# Altium footprint library ZJUNlict_footprint.PcbLib: 113 footprints (part 7 of 8)
Each footprint in its own frame and in the unit in brackets; x right, y up, seen from the top. Pads: shape width x height; smd on the part's side, far side on the other; paste and mask are expansions set on the pad; w line width, h text height; cw(c..) or ccw(c..) is an arc to the next point about the centre after c.
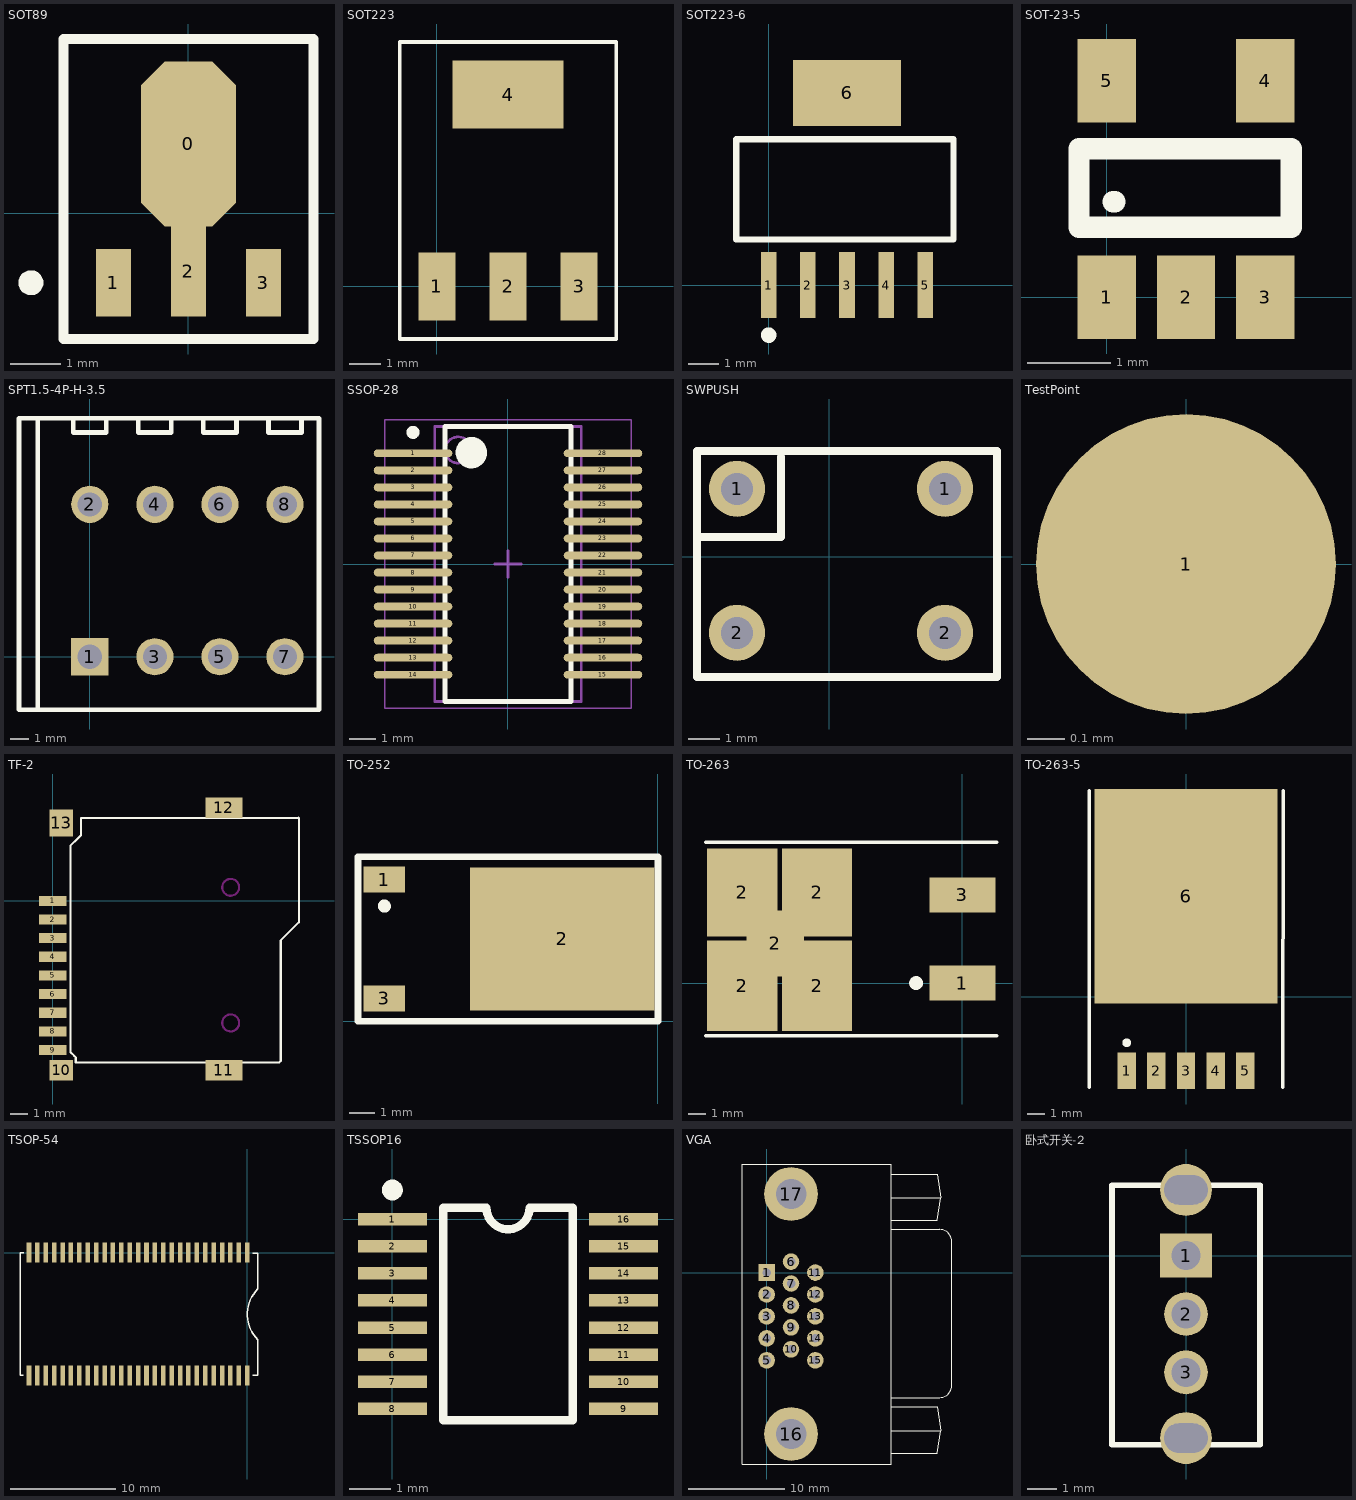
[diagram p6: the footprints below, top view; thin cyan lines are the x and y axes]

## SOT89 [mm] "SOT-89; Body 4.6 x 4.25 mm, inc. leads (LxW max)"
height 1.6
pads (4):
  oct 1.9x3.3 smd: 0(0,1.388)
  rect 0.7x1.35 smd: 1(-1.5,-1.388) 3(1.5,-1.388)
  rect 0.7x1.8 smd: 2(0,-1.163)
Top Overlay:
  circle w0.25: c-3.15,-1.388 r0.125
  lines w0.2: -2.5,-2.513 2.5,-2.513 2.5,3.487 -2.5,3.487 -2.5,-2.513

## SOT223 [mm]
height 1.4
pads (4):
  rect 1.2x2.2 smd: 1(0,0) 2(2.3,0) 3(4.6,0)
  rect 3.6x2.2 smd: 4(2.3,6.2)
Top Overlay:
  lines w0.127: -1.2,-1.7 5.8,-1.7 5.8,7.9 -1.2,7.9 -1.2,-1.7

## SOT223-6 [mm]
pads (6):
  rect 0.51x2.15 smd: 1(0,0) 2(1.27,0) 3(2.54,0) 4(3.81,0) 5(5.08,0)
  rect 3.5x2.15 smd: 6(2.54,6.223)
Top Overlay:
  circle w0.25: c0,-1.625 r0.125
  lines w0.2: -1.05,1.475 5.994,1.475 5.994,4.725 -1.05,4.725 -1.05,1.475

## SOT-23-5 [mm]
pads (5):
  rect 0.7x1 smd: 1(0,0) 2(0.95,0) 3(1.9,0) 4(1.9,2.59) 5(0,2.59)
Top Overlay:
  lines w0.254: 0.076,1.143 0.102,1.143 ; -0.33,0.838 -0.33,1.778 2.21,1.778 2.21,0.838 -0.33,0.838

## SPT1.5-4P-H-3.5 [mm]
pads (8):
  rect 2x2 hole 1.3: 1(0,0)
  round 2 hole 1.3: 2(0,8.2) 3(3.5,0) 4(3.5,8.2) 5(7,0) 6(7,8.2) 7(10.5,0) 8(10.5,8.2)
Top Overlay:
  lines w0.254: -2.794,-2.849 -2.794,12.827 ; -0.889,12.827 -0.889,12.065 0.889,12.065 0.889,12.827 ; 2.611,12.827 2.611,12.065 4.389,12.065 4.389,12.827 ; 6.111,12.827 6.111,12.065 7.889,12.065 7.889,12.827 ; 9.611,12.827 9.611,12.065 11.389,12.065 11.389,12.827 ; -3.81,-2.849 -3.81,12.827 12.334,12.827 12.334,-2.849 -3.81,-2.849

## SSOP-28 [mm] "SOP, 28-Leads, Body 10.20x5.45mm, Pitch 0.65mm, IPC Medium Density"
height 2
pads (28):
  oval 3x0.3 smd: 1(-3.625,4.225) 2(-3.625,3.575) 3(-3.625,2.925) 4(-3.625,2.275) 5(-3.625,1.625) 6(-3.625,0.975) 7(-3.625,0.325) 8(-3.625,-0.325) 9(-3.625,-0.975) 10(-3.625,-1.625) 11(-3.625,-2.275) 12(-3.625,-2.925) 13(-3.625,-3.575) 14(-3.625,-4.225) 15(3.625,-4.225) 16(3.625,-3.575) 17(3.625,-2.925) 18(3.625,-2.275) 19(3.625,-1.625) 20(3.625,-0.975) 21(3.625,-0.325) 22(3.625,0.325) 23(3.625,0.975) 24(3.625,1.625) 25(3.625,2.275) 26(3.625,2.925) 27(3.625,3.575) 28(3.625,4.225)
Top Overlay:
  circle w0.25: c-3.625,5.025 r0.125
  circle w0.6: c-1.4,4.25 r0.3
  lines w0.2: -2.4,-5.25 -2.4,5.25 2.4,5.25 2.4,-5.25 -2.4,-5.25
Mechanical 13:
  circle w0.1: c-1.9,4.35 r0.5
  lines w0.1: -2.8,-5.25 -2.8,5.25 2.8,5.25 2.8,-5.25 -2.8,-5.25
Mechanical 15:
  lines w0.05: -4.7,-5.5 -4.7,5.5 4.7,5.5 4.7,-5.5 -4.7,-5.5
  lines w0.1: -0.5,0 0.5,0 ; 0,-0.5 0,0.5
3D body: height 2, standoff 0.05, extent -2.8,-5.25 2.8,5.25

## SWPUSH [mil]
height 250
pads (4):
  round 70 hole 40: 1(-115,85) 1(145,85) 2(-115,-95) 2(145,-95)
Top Overlay:
  lines w10: -165,25 -60,25 -60,125 ; -165,130 -165,-150 210,-150 210,132 -151,132 ; -165,132 -127,132

## TestPoint [mm]
pads (1):
  round 0.8 smd: 1(0,0)

## TF-2 [mm]
pads (13):
  rect 1.6x0.6 smd: 1(-0.007,-0.008) 2(-0.007,-1.108) 3(-0.007,-2.208) 4(-0.007,-3.308) 5(-0.007,-4.408) 6(-0.007,-5.508) 7(-0.007,-6.608) 8(-0.007,-7.708) 9(-0.007,-8.808)
  rect 1.4x1.2 smd: 10(0.493,-10.008)
  rect 2.2x1.2 smd: 11(10.093,-10.008) 12(10.093,5.492)
  rect 1.4x1.6 smd: 13(0.493,4.592)
Top Overlay:
  lines w0.127: 14.493,4.892 1.66,4.876 1.66,3.86 1.457,3.657 1.034,3.234 1.034,-8.925 1.253,-9.145 1.355,-9.246 1.355,-9.551 13.344,-9.551 13.445,-9.45 13.445,-2.338 14.512,-1.271 14.512,4.872
Keep-Out Layer:
  circle w0.127: c10.493,-7.209 r0.5
  circle w0.127: c10.493,0.792 r0.5

## TO-252 [mm] "FOR MURD620CTG"
pads (3):
  rect 1.6x1 smd: 1(-10.537,5.46) 3(-10.537,0.89)
  rect 7.1x5.5 smd: 2(-3.687,3.175)
Top Overlay:
  circle w0.25: c-10.541,4.443 r0.125
  lines w0.254: -11.557,0 -11.254,0 -0.254,0 0,0 0,6.35 -0.303,6.35 -11.303,6.35 -11.557,6.35 -11.557,0

## TO-263 [mil] "for MBRB20200CTG"
height 104.33
pads (7):
  rect 150x80 smd: 1(0,0) 3(0,200)
  rect 160x205 smd: 2(-500,-6) 2(-330,-6)
  rect 160x200 smd: 2(-500,206) 2(-330,206)
  rect 130x150 smd: 2(-425,90)
Top Overlay:
  circle w15.75: c-104.92,0 r7.87
  lines w7.87: -582.95,-119.49 78.74,-119.49 ; -582.95,319.49 78.74,319.49

## TO-263-5 [mm] "FOR LM2576"
height 5.08
pads (6):
  rect 1.05x2.1 smd: 1(-3.4,-4.225) 2(-1.7,-4.225) 3(0,-4.225) 4(1.7,-4.225) 5(3.4,-4.225)
  rect 10.5x12.3 smd: 6(0,5.766)
Top Overlay:
  circle w0.25: c-3.4,-2.625 r0.125
  lines w0.2: -5.55,-5.175 -5.55,11.825 ; 5.55,-5.175 5.563,11.825

## TSOP-54 [mil]
height 501.97
pads (54):
  rect 17x75 smd: 1(0,0) 2(-31.5,0) 3(-62.99,0) 4(-94.49,0) 5(-125.98,0) 6(-157.48,0) 7(-188.98,0) 8(-220.47,0) 9(-251.97,0) 10(-283.46,0) 11(-314.99,0) 12(-346.46,0) 13(-377.95,0) 14(-409.45,0) 15(-440.94,0) 16(-472.44,0) 17(-503.94,0) 18(-535.43,0) 19(-566.93,0) 20(-598.43,0) 21(-629.92,0) 22(-661.42,0) 23(-692.91,0) 24(-724.41,0) 25(-755.91,0) 26(-787.4,0) 27(-818.9,0) 28(-818.9,-460) 29(-787.4,-460) 30(-755.91,-460) 31(-724.41,-460) 32(-692.91,-460) 33(-661.42,-460) 34(-630,-460) 35(-598.43,-460) 36(-566.93,-460) 37(-535.43,-460) 38(-503.94,-460) 39(-472.44,-460) 40(-440.94,-460) 41(-409.45,-460) 42(-377.95,-460) 43(-346.46,-460) 44(-314.99,-460) 45(-283.46,-460) 46(-251.97,-460) 47(-220.47,-460) 48(-188.98,-460) 49(-157.48,-460) 50(-125.98,-460) 51(-94.49,-460) 52(-62.99,-460) 53(-31.5,-460) 54(0,-460)
Top Overlay:
  lines w5: -840,-460 -852,-460 -852,0 -838,0 ; 20,-460 40,-460 40,-326 cw(c135,-231) 40,-136 40,-2 20,-2

## TSSOP16 [mm]
height 6.35
pads (16):
  rect 1.65x0.3 smd: 1(0,0) 2(0,-0.65) 3(0,-1.3) 4(0,-1.95) 5(0,-2.6) 6(0,-3.25) 7(0,-3.9) 8(0,-4.55) 9(5.55,-4.55) 10(5.55,-3.9) 11(5.55,-3.25) 12(5.55,-2.6) 13(5.55,-1.95) 14(5.55,-1.3) 15(5.55,-0.65) 16(5.55,0)
Top Overlay:
  circle w0.25: c0,0.7 r0.125
  lines w0.2: 1.225,-4.825 1.225,0.275 2.258,0.275 ccw(c2.775,0.275) 3.292,0.275 4.325,0.275 4.325,-4.825 1.225,-4.825

## VGA [mil]
height 62.99
pads (17):
  rect 68x68 hole 35: 1(0,0)
  round 68 hole 35: 2(0,-90) 3(0,-180) 4(0,-270) 5(0,-360) 6(100,45) 7(100,-45) 8(100,-135) 9(100,-225) 10(100,-315) 11(200,0) 12(200,-90) 13(200,-180) 14(200,-270) 15(200,-360)
  round 220 hole 125: 16(100,-662) 17(100,322)
Top Overlay:
  lines w5: 510,-504 510,136 ; 510.24,441 510.24,445 ; 511,-740 699,-740 713,-648 ; 511,-648 713,-648 ; 511,-550 699,-550 713,-648 ; 511,-512.49 709,-512.49 ccw(c709,-462.49) 759,-462.49 759,126.49 ccw(c709,126.49) 709,176.49 511,176.49 ; 511,214 699,214 713,306 ; 511,306 713,306 ; 511,404 699,404 713,306 ; 510.24,445 -100,445 -100,-785 510.24,-785 510.24,445

## 卧式开关-2 [mm] "开关"
pads (5):
  rect 1.778x1.5 hole 1: 1(0,0)
  round 1.5 hole 1: 2(0,-2) 3(0,-4)
  round 1.778 hole 1 slot 1.5 at 0 deg: ""(0,-6.25) ""(0,2.25)
Top Overlay:
  lines w0.2: -2.54,-6.477 2.54,-6.477 2.54,2.413 -2.54,2.413 -2.54,-6.477